# EAGLE library part ACS712 (library open-bldc)
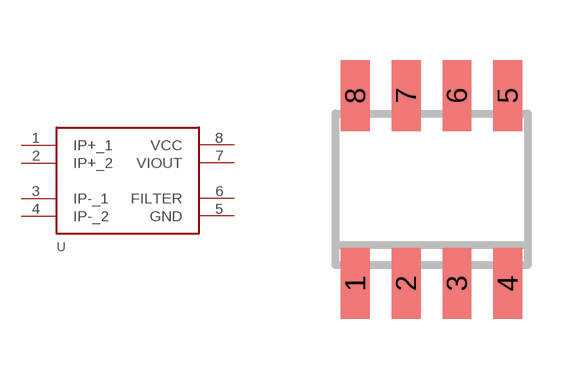
[diagram p1: symbol with the pads of SO8; footprint SO8]

Designator prefix -

## ACS712  [SO8]
1  IP+_1
2  IP+_2
3  IP-_1
4  IP-_2
5  GND
6  FILTER
7  VIOUT
8  VCC

## Footprint SO8 (pad centres in mm)
smd 0.72 x 1.78: 1 -1.905,-2.35; 2 -0.635,-2.35; 3 0.635,-2.35; 4 1.905,-2.35; 5 1.905,2.35; 6 0.635,2.35; 7 -0.635,2.35; 8 -1.905,2.35